# Altium schematic symbol library SN65HVD230.SchLib: 1 symbol
Pins are listed as number, name and electrical type; pins without a type are passive.

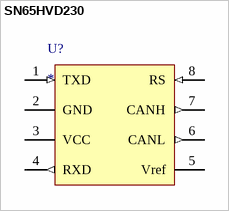
[diagram p0: symbol SN65HVD230]

## SN65HVD230
designator U?
pins: 1 TXD (in), 2 GND (power), 3 VCC (power), 4 RXD (out), 5 Vref (power), 6 CANL (out), 7 CANH (out), 8 RS (in)